# Altium schematic symbol library FBA.SchLib: 1 symbol
Pins are listed as number, name and electrical type; pins without a type are passive.

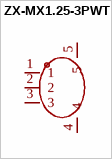
[diagram p0: symbol ZX-MX1.25-3PWT]

## ZX-MX1.25-3PWT
designator U??  (value not drawn)
Manufacturer: Megastar(兆星); Add into BOM: yes; Pins Structure: 1x3P; Pitch: 1.25mm; Reference Series: PicoBlade(MX 1.25); Number of PINs Per Row: 3; Current Rating: 1A; Voltage Rating: 125V; Plastic Material: LCP; Supplementary Features: Auxiliary Solder Pin; Z-Height of the Board: 3.6mm; X-Length of Bottom Edge on Board (Spacing Line): 8.75mm; Y-Width of Bottom Edge on Board: 5.25mm; Symbol: ZX-MX1.25-3PWT; Device: ZX-MX1.25-3PWT; LCSC Part Name: 1x3P 间距:1.25mm 卧贴 系列:PicoBlade(MX 1.25); Supplier Part: C7430469; Manufacturer Part: ZX-MX1.25-3PWT; Supplier Footprint: SMD,P=1.25mm,卧贴; JLCPCB Part Class: Extended Part; Datasheet: https://item.szlcsc.com/datasheet/ZX-MX1.25-3PWT/8430338.html; Supplier: LCSC; Convert to PCB: yes; Mounting Type: Surface Mount, Right Angle; Number of Pins: 3P; Number of Rows: 1; Row Spacing: -; Contact Material: Brass; Contact Plating: Tin; Operating Temperature: -25℃~+85℃; Flame Retardant Rating: -; Color: Beige
footprint CONN-SMD_3P-P1.25_MEGASTAR_ZX-MX1.25-3PWT
pins: 1, 2, 3, 4, 5